# Altium footprint library outros_PCBLIB.PcbLib: 37 footprints (part 2 of 3)
Each footprint in its own frame and in the unit in brackets; x right, y up, seen from the top. Pads: shape width x height; smd on the part's side, far side on the other; paste and mask are expansions set on the pad; w line width, h text height; cw(c..) or ccw(c..) is an arc to the next point about the centre after c.
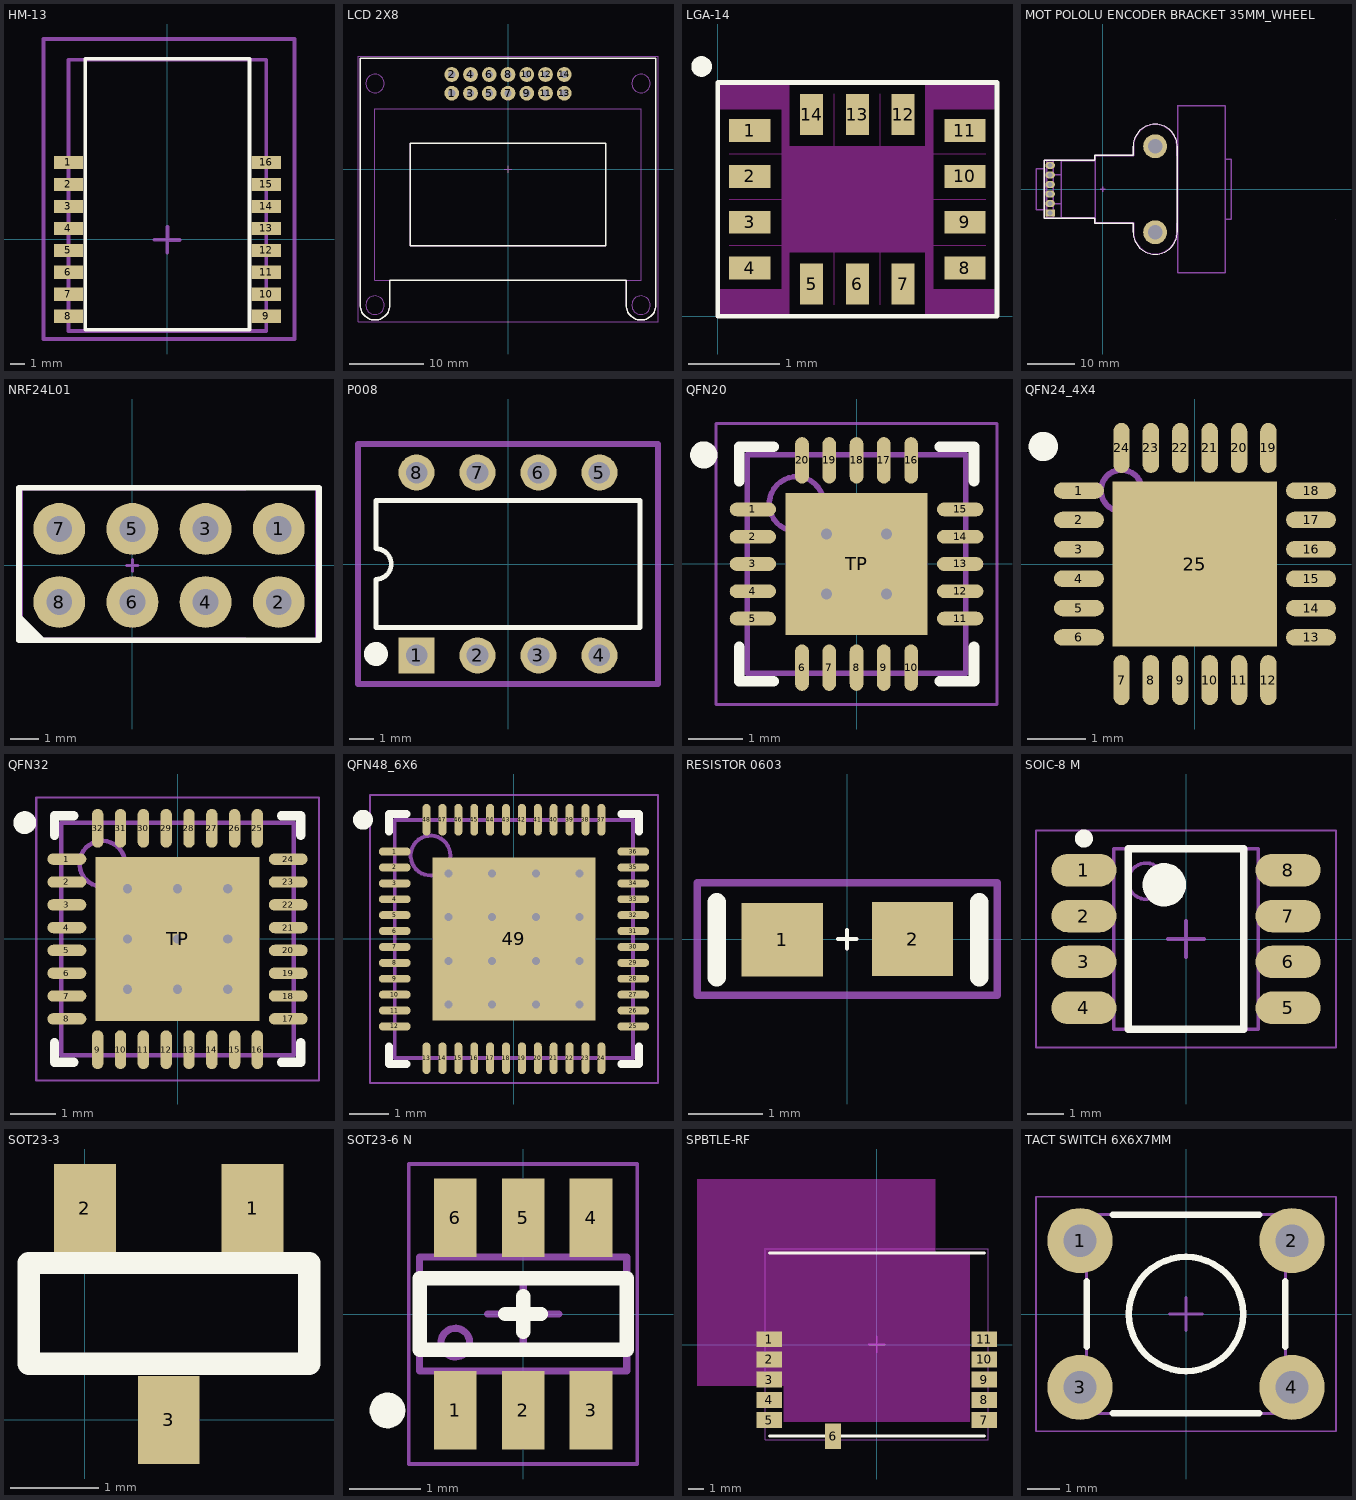
[diagram p1: the footprints below, top view; thin cyan lines are the x and y axes]

## HM-13 [mm]
pads (16):
  rect 2x0.9 smd: 1(-6.75,5.25) 2(-6.75,3.75) 3(-6.75,2.25) 4(-6.75,0.75) 5(-6.75,-0.75) 6(-6.75,-2.25) 7(-6.75,-3.75) 8(-6.75,-5.25) 9(6.75,-5.25) 10(6.75,-3.75) 11(6.75,-2.25) 12(6.75,-0.75) 13(6.75,0.75) 14(6.75,2.25) 15(6.75,3.75) 16(6.75,5.25)
Top Overlay:
  lines w0.254: -5.6,12.3 -5.6,-6.175 5.6,-6.175 5.6,12.3 ; -5.6,12.325 5.6,12.325
Mechanical 13:
  lines w0.254: -6.75,-6.25 6.75,-6.25 6.75,12.25 -6.75,12.25 -6.75,-6.25
Mechanical 15:
  lines w0.254: -0.875,-0.025 0.85,-0.025 0.85,-0.05 0.025,-0.05 0.025,0.85 0,0.85 0,-0.9 ; -8.45,-6.8 8.675,-6.8 8.675,13.675 -8.45,13.675 -8.45,-6.8
3D body "HM11.STEP": height 1.7, standoff -0.1, extent -6.75,-6.25 6.75,12.25

## LCD 2X8 [mm] "LCD 2X8"
height 21.74
pads (14):
  round 2 hole 1: 1(-7.62,10.287) 2(-7.62,12.827) 3(-5.08,10.287) 4(-5.08,12.827) 5(-2.54,10.287) 6(-2.54,12.827) 7(0,10.287) 8(0,12.827) 9(2.54,10.287) 10(2.54,12.827) 11(5.08,10.287) 12(5.08,12.827) 13(7.62,10.287) 14(7.62,12.827)
Top Overlay:
  lines w0.2: -20,-18.4 ccw(c-18,-18.4) -16,-18.4 -16,-15 16,-15 16,-18.4 ccw(c18,-18.4) 20,-18.4 20,-15 20,15 -20,15 -20,-15 -20,-18.4 ; -13.2,-10.35 13.2,-10.35 13.2,3.55 -13.2,3.55 -13.2,-10.35
Mechanical 13:
  circle w0.1: c18,-18.4 r1.25
  circle w0.1: c-18,-18.4 r1.25
  circle w0.1: c18,11.6 r1.25
  circle w0.1: c-18,11.6 r1.25
  lines w0.1: -20,-15 -20,-15 ; -20,-15 -20,15 20,15 20,-15 20,-18.4 cw(c18,-18.4) 16,-18.4 16,-15 -16,-15 -16,-18.4 cw(c-18,-18.4) -20,-18.4 -20,-15 ; -18,-15 -18,8.2 18,8.2 18,-15 -18,-15 ; -13.2,-10.35 -13.2,3.55 13.2,3.55 13.2,-10.35 -13.2,-10.35
Mechanical 15:
  lines w0.05: -20.3,-20.65 20.3,-20.65 20.3,15.3 -20.3,15.3 -20.3,-20.65
  lines w0.1: -0.5,0 0.5,0 ; 0,-0.5 0,0.5
Mechanical 29:
  text ".Designator" at 0,0 h1.2
3D body "LCD 8X2.STEP": height 21.74, standoff -2.09, extent -20,-20.4 20,15

## LGA-14 [mm]
pads (14):
  rect 0.45x0.25 smd: 1(0.35,2.025) 2(0.35,1.525) 3(0.35,1.025) 4(0.35,0.525) 8(2.7,0.525) 9(2.7,1.025) 10(2.7,1.525) 11(2.7,2.025)
  rect 0.25x0.45 smd: 5(1.025,0.35) 6(1.525,0.35) 7(2.025,0.35) 12(2.025,2.2) 13(1.525,2.2) 14(1.025,2.2)
Top Layer keep-out:
  rectangle: 0.695,0.295 0.785,0.695
  rectangle: 2.265,0.295 2.355,0.695
  rectangle: 2.265,1.855 2.355,2.255
  rectangle: 0.695,1.855 0.785,2.255
  rectangle: 0.025,0.025 0.785,0.295
  rectangle: 2.265,0.025 3.025,0.295
  rectangle: 2.265,2.255 3.025,2.525
  rectangle: 0.025,2.255 0.785,2.525
  rectangle: 0.695,0.695 2.355,1.855
  lines w0.01: 0.125,0.775 0.855,0.775 ; 0.125,1.275 0.855,1.275 ; 0.125,1.775 0.855,1.775 ; 1.275,0.125 1.275,0.855 ; 1.275,1.695 1.275,2.425 ; 1.775,0.125 1.775,0.855 ; 1.775,1.695 1.775,2.425 ; 2.195,0.775 2.925,0.775 ; 2.195,1.275 2.925,1.275 ; 2.195,1.775 2.925,1.775
Top Overlay:
  circle w0.125: c-0.175,2.725 r0.05
  lines w0.051: 0,0 0,2.55 3.05,2.55 3.05,0 0,0
3D body "Sensor 6 eixos st v0.step": height 0.99, standoff -0.02, extent 0.025,0.025 3.025,2.525

## MOT POLOLU ENCODER BRACKET 35MM_WHEEL [mm] "Chip Capacitor, 2-Leads, Body 1,60x0,80mm, IPC Medium Density"
height 0.8
pads (8):
  oval 2x1.5 hole 1: 1(-11,5) 2(-11,3) 3(-11,1) 4(-11,-1) 5(-11,-3)
  rect 2x1.5 hole 1: 6(-11,-5)
  round 5 hole 3: ""(11,-9) ""(11,9)
Top Overlay:
  lines w0.127: 6.4,-9 ccw(c11,-9) 15.6,-9 ; 6.4,9 cw(c11,9) 15.6,9
  lines w0.3: 6.4,-9 6.4,-7.1 -1.6,-7.1 -1.6,-6.1 -12.2,-6.1 -12.2,6.1 -1.6,6.1 -1.6,7.1 6.4,7.1 6.4,9 ; 15.6,-9 15.6,9
Mechanical 13:
  lines w0.1: 6.5,-9 ccw(c11,-9) 15.5,-9 ; 6.5,9 cw(c11,9) 15.5,9
  lines w0.3: -12.15,-0.5 -11.7,-0.5 ; -12.15,0.5 -11.7,0.5 ; -8.7,-3 -10.3,-3 ; -8.7,3 -10.25,3 -10.3,2.95 ; -1.5,-6 -8.7,-6 -8.7,6 -1.5,6 ; 6.5,-9 6.5,-7 ; 6.5,9 6.5,7 -1.5,7 -1.5,-7 6.5,-7 ; 15.5,-9 15.5,-7 15.7,-7 ; 15.5,9 15.5,7 ; 15.7,7 15.5,7 ; -10.3,-3 -10.3,-6 -11.7,-6 -11.7,6 -10.3,6 -10.3,2.95 ; -10.3,-3 -10.3,2.95 ; 6.5,-7 6.5,-7 ; 6.5,-7 6.5,-7 ; 15.5,7 15.5,7 ; 25.7,-6.3 25.7,-17.45 15.7,-17.45 15.7,17.45 25.7,17.45 25.7,6.3 ; 25.7,-6.3 25.7,6.3 ; 25.7,-6.3 26.9,-6.3 26.9,6.3 25.7,6.3 ; -13.95,-4.25 -12.15,-4.25 -12.15,4.25 -13.95,4.25 -13.95,-4.25
Mechanical 15:
  lines w0.1: 6.4,-9 ccw(c11,-9) 15.6,-9 ; 6.4,9 cw(c11,9) 15.6,9
  lines w0.3: -0.5,0 0.5,0 ; 0,-0.5 0,0.5 ; 6.4,-9 6.4,-7.1 -1.6,-7.1 -1.6,-6.1 -12.2,-6.1 -12.2,6.1 -1.6,6.1 -1.6,7.1 6.4,7.1 6.4,9 ; 15.6,9 15.6,-9 ; 15.6,-9 15.6,-9 ; 15.6,17.55 15.6,17.55 ; 48.85,-6.35 48.85,-6.35
Mechanical 29:
  text ".Designator" at -11.95,6.5 h0.5
3D body "Motor.STEP": height 22.49, standoff -12.43, extent -13.95,-17.462 26.882,17.462

## NRF24L01 [mm] "Connector; Header; 6 Position"
pads (8):
  round 1.8 hole 0.9: 1(5.08,1.27) 2(5.08,-1.27) 3(2.54,1.27) 4(2.54,-1.27) 5(0,1.27) 6(0,-1.27) 7(-2.54,1.27) 8(-2.54,-1.27)
Top Overlay:
  region: -3.937,-2.6 -3.048,-2.6 -3.048,-2.54 -3.937,-1.651
  lines w0.2: -3.937,-2.6 -3.937,2.7 6.477,2.7 6.477,-2.6 -3.937,-2.6
Mechanical 15:
  lines w0.1: -0.2,0 0.2,0 ; 0,-0.2 0,0.2
  lines w0.2: 3.9,-2.6 -3.9,-2.6 -3.9,2.7 3.9,2.7 ; 6.44,-2.6 6.44,-1.275 6.44,1.375 6.44,2.7
Mechanical 29:
  text "1" at -1.524,-2.286 h0.5
  text ".Designator" at -3.7,3.1 h0.5
3D body "User Library-NRF24L01.STEP": height 11.5, standoff -0.95, extent -8.255,-25.825 6.745,3.175
3D body: height 0.25, standoff 0, extent -4.572,2.667 -4.572,2.667

## P008 [mm] "DIP; 8 Leads; Row Spacing 7.62 mm; Pitch 2.54 mm"
height 5.08
pads (8):
  rect 1.5x1.5 hole 0.9: 1(-3.81,-3.81)
  round 1.5 hole 0.9: 2(-1.27,-3.81) 3(1.27,-3.81) 4(3.81,-3.81) 5(3.81,3.81) 6(1.27,3.81) 7(-1.27,3.81) 8(-3.81,3.81)
Top Overlay:
  circle w0.5: c-5.5,-3.75 r0.25
  lines w0.2: -5.5,-2.65 -5.5,-0.635 ccw(c-5.5,0) -5.5,0.635 -5.5,2.65 5.5,2.65 5.5,-2.65 -5.5,-2.65
Mechanical 15:
  lines w0.254: -6.25,-5 6.25,-5 6.25,5 -6.25,5 -6.25,-5
3D body "DIP8.STEP": height 3.85, standoff -2, extent -4.6,-3.935 4.6,3.935

## QFN20 [mm] "QFN, 20-Leads, Body 4,00x4,00mm, Pitch 0,50mm, Thermal Pad 2,60x2,60mm, IPC Medium Density"
height 0.95
pads (21):
  oval 0.85x0.25 smd: 1(-1.9,1) 2(-1.9,0.5) 3(-1.9,0) 4(-1.9,-0.5) 5(-1.9,-1) 11(1.9,-1) 12(1.9,-0.5) 13(1.9,0) 14(1.9,0.5) 15(1.9,1)
  oval 0.25x0.85 smd: 6(-1,-1.9) 7(-0.5,-1.9) 8(0,-1.9) 9(0.5,-1.9) 10(1,-1.9) 16(1,1.9) 17(0.5,1.9) 18(0,1.9) 19(-0.5,1.9) 20(-1,1.9)
  rect 2.6x2.6 smd: TP(0,0)
via -0.55,0.55 diameter 0.5 hole 0.2
via 0.55,0.55 diameter 0.5 hole 0.2
via -0.55,-0.55 diameter 0.5 hole 0.2
via 0.55,-0.55 diameter 0.5 hole 0.2
Top Overlay:
  circle w0.25: c-2.8,2 r0.125
  lines w0.2: -2.15,-1.525 -2.15,-2.15 -1.525,-2.15 ; -2.15,1.525 -2.15,2.15 -1.525,2.15 ; 1.525,-2.15 2.15,-2.15 2.15,-1.525 ; 1.525,2.15 2.15,2.15 2.15,1.525
Mechanical 13:
  circle w0.1: c-1.1,1.1 r0.5
  lines w0.1: -2,-2 -2,2 2,2 2,-2 -2,-2
Mechanical 15:
  lines w0.05: -2.575,-2.575 -2.575,2.575 2.575,2.575 2.575,-2.575 -2.575,-2.575
  lines w0.1: -0.5,0 0.5,0 ; 0,-0.5 0,0.5
3D body "QFN50P400X400X95_HS-21N.step": height 0.95, standoff 0, extent -2.02,-2.02 2.02,2.02

## QFN24_4X4 [mm]
pads (25):
  oval 0.85x0.28 smd: 1(-1.975,1.25) 2(-1.975,0.75) 3(-1.975,0.25) 4(-1.975,-0.25) 5(-1.975,-0.75) 6(-1.975,-1.25) 13(1.975,-1.25) 14(1.975,-0.75) 15(1.975,-0.25) 16(1.975,0.25) 17(1.975,0.75) 18(1.975,1.25)
  oval 0.28x0.85 smd: 7(-1.25,-1.975) 8(-0.75,-1.975) 9(-0.25,-1.975) 10(0.25,-1.975) 11(0.75,-1.975) 12(1.25,-1.975) 19(1.25,1.975) 20(0.75,1.975) 21(0.25,1.975) 22(-0.25,1.975) 23(-0.75,1.975) 24(-1.25,1.975)
  rect 2.8x2.8 smd: 25(0,0)
Top Overlay:
  circle w0.25: c-2.58,2 r0.125
Mechanical 13:
  circle w0.1: c-1.25,1.25 r0.35

## QFN32 [mm] "QFN, 32-Leads, Body 5,00x5,00mm, Pitch 0,50mm, Thermal Pad 3,60x3,60mm, IPC Medium Density"
height 0.9
pads (33):
  oval 0.85x0.25 smd: 1(-2.425,1.75) 2(-2.425,1.25) 3(-2.425,0.75) 4(-2.425,0.25) 5(-2.425,-0.25) 6(-2.425,-0.75) 7(-2.425,-1.25) 8(-2.425,-1.75) 17(2.425,-1.75) 18(2.425,-1.25) 19(2.425,-0.75) 20(2.425,-0.25) 21(2.425,0.25) 22(2.425,0.75) 23(2.425,1.25) 24(2.425,1.75)
  oval 0.25x0.85 smd: 9(-1.75,-2.425) 10(-1.25,-2.425) 11(-0.75,-2.425) 12(-0.25,-2.425) 13(0.25,-2.425) 14(0.75,-2.425) 15(1.25,-2.425) 16(1.75,-2.425) 25(1.75,2.425) 26(1.25,2.425) 27(0.75,2.425) 28(0.25,2.425) 29(-0.25,2.425) 30(-0.75,2.425) 31(-1.25,2.425) 32(-1.75,2.425)
  rect 3.6x3.6 smd: TP(0,0)
via 1.1,-1.1 diameter 0.5 hole 0.2
via 0,-1.1 diameter 0.5 hole 0.2
via -1.1,-1.1 diameter 0.5 hole 0.2
via 1.1,0 diameter 0.5 hole 0.2
via 0,0 diameter 0.5 hole 0.2
via -1.1,0 diameter 0.5 hole 0.2
via 1.1,1.1 diameter 0.5 hole 0.2
via 0,1.1 diameter 0.5 hole 0.2
via -1.1,1.1 diameter 0.5 hole 0.2
Top Overlay:
  circle w0.25: c-3.35,2.55 r0.125
  lines w0.2: -2.7,-2.275 -2.7,-2.7 -2.275,-2.7 ; -2.7,2.275 -2.7,2.7 -2.275,2.7 ; 2.275,-2.7 2.7,-2.7 2.7,-2.275 ; 2.275,2.7 2.7,2.7 2.7,2.275
Mechanical 13:
  circle w0.1: c-1.65,1.65 r0.5
  lines w0.1: -2.55,-2.55 2.55,-2.55 2.55,2.55 -2.55,2.55 -2.55,-2.55
Mechanical 15:
  lines w0.05: -3.1,-3.1 3.1,-3.1 3.1,3.1 -3.1,3.1 -3.1,-3.1
  lines w0.1: -0.5,0 0.5,0 ; 0,-0.5 0,0.5
3D body "QFN50P500X500X90_HS-33N.step": height 0.9, standoff 0, extent -2.57,-2.57 2.57,2.57

## QFN48_6X6 [mm] "QFN, 48-Leads, Body 6x6mm, Pitch 0.4mm, Thermal Pad 4.1x4.1mm, IPC Medium Density"
height 0.85
pads (49):
  oval 0.8x0.2 smd: 1(-3,2.2) 2(-3,1.8) 3(-3,1.4) 4(-3,1) 5(-3,0.6) 6(-3,0.2) 7(-3,-0.2) 8(-3,-0.6) 9(-3,-1) 10(-3,-1.4) 11(-3,-1.8) 12(-3,-2.2) 25(3,-2.2) 26(3,-1.8) 27(3,-1.4) 28(3,-1) 29(3,-0.6) 30(3,-0.2) 31(3,0.2) 32(3,0.6) 33(3,1) 34(3,1.4) 35(3,1.8) 36(3,2.2)
  oval 0.2x0.8 smd: 13(-2.2,-3) 14(-1.8,-3) 15(-1.4,-3) 16(-1,-3) 17(-0.6,-3) 18(-0.2,-3) 19(0.2,-3) 20(0.6,-3) 21(1,-3) 22(1.4,-3) 23(1.8,-3) 24(2.2,-3) 37(2.2,3) 38(1.8,3) 39(1.4,3) 40(1,3) 41(0.6,3) 42(0.2,3) 43(-0.2,3) 44(-0.6,3) 45(-1,3) 46(-1.4,3) 47(-1.8,3) 48(-2.2,3)
  rect 4.1x4.1 smd: 49(0,0)
via -1.65,1.65 diameter 0.5 hole 0.2
via -0.55,1.65 diameter 0.5 hole 0.2
via 0.55,1.65 diameter 0.5 hole 0.2
via 1.65,1.65 diameter 0.5 hole 0.2
via -1.65,0.55 diameter 0.5 hole 0.2
via -0.55,0.55 diameter 0.5 hole 0.2
via 0.55,0.55 diameter 0.5 hole 0.2
via 1.65,0.55 diameter 0.5 hole 0.2
via -1.65,-0.55 diameter 0.5 hole 0.2
via -0.55,-0.55 diameter 0.5 hole 0.2
via 0.55,-0.55 diameter 0.5 hole 0.2
via 1.65,-0.55 diameter 0.5 hole 0.2
via -1.65,-1.65 diameter 0.5 hole 0.2
via -0.55,-1.65 diameter 0.5 hole 0.2
via 0.55,-1.65 diameter 0.5 hole 0.2
via 1.65,-1.65 diameter 0.5 hole 0.2
Top Overlay:
  circle w0.25: c-3.8,3 r0.125
  lines w0.2: -3.15,-2.7 -3.15,-3.15 -2.7,-3.15 ; -3.15,2.7 -3.15,3.15 -2.7,3.15 ; 2.7,-3.15 3.15,-3.15 3.15,-2.7 ; 2.7,3.15 3.15,3.15 3.15,2.7
Mechanical 13:
  circle w0.1: c-2.1,2.1 r0.5
  lines w0.1: -3,-3 -3,3 3,3 3,-3 -3,-3
Mechanical 15:
  lines w0.05: -3.625,-3.625 -3.625,3.625 3.625,3.625 3.625,-3.625 -3.625,-3.625
  lines w0.1: -0.5,0 0.5,0 ; 0,-0.5 0,0.5
Mechanical 29:
  text ".Designator" at -1.143,-0.635 h1.4
3D body "QFN48_6x6.STEP": height 0.87, standoff 0, extent -3.02,-3.02 3.02,3.02

## RESISTOR 0603 [mm] "RES 5% 0603"
height 0.025
pads (2):
  rect 1.1x1 smd: 1(-0.877,-0.011) 2(0.889,0)
Top Overlay:
  lines w0.051: -0.127,0 0.127,0 ; 0,-0.127 0,0.127
  lines w0.254: -1.766,-0.519 -1.766,0.497 ; 1.79,-0.519 1.79,0.497
Mechanical 15:
  lines w0.102: -2.032,-0.762 2.032,-0.762 2.032,0.762 -2.032,0.762 -2.032,-0.762
3D body "SW3dPS-0603 SMD Resistor.STEP": height 0.3, standoff 0, extent -0.8,-0.4 0.8,0.4

## SOIC-8 M [mm] "SOIC, 8-Leads, Body 4,90x3,90mm, Pitch 1,27mm, IPC Low Density"
height 1.75
pads (8):
  oval 1.8x0.9 smd: 1(-2.825,1.905) 2(-2.825,0.635) 3(-2.825,-0.635) 4(-2.825,-1.905) 5(2.825,-1.905) 6(2.825,-0.635) 7(2.825,0.635) 8(2.825,1.905)
Top Overlay:
  circle w0.6: c-0.6,1.5 r0.3
  circle w0.25: c-2.825,2.78 r0.125
  lines w0.2: -1.6,-2.5 1.6,-2.5 1.6,2.5 -1.6,2.5 -1.6,-2.5
Mechanical 13:
  circle w0.1: c-1.1,1.6 r0.5
  lines w0.1: -2,-2.5 2,-2.5 2,2.5 -2,2.5 -2,-2.5
Mechanical 15:
  lines w0.05: -4.15,-3 4.15,-3 4.15,3 -4.15,3 -4.15,-3
  lines w0.1: -0.5,0 0.5,0 ; 0,-0.5 0,0.5
Mechanical 29:
  text ".Designator" at 0,0 h2
3D body "SOIC127P600X175-8M.step": height 1.75, standoff 0, extent -3,-2.5 3,2.5

## SOT23-3 [mm] "Hall Sensor"
pads (3):
  rect 0.7x1 smd: 1(1.9,2.4) 2(0,2.4) 3(0.95,0)
Top Overlay:
  lines w0.254: -0.635,0.635 2.54,0.635 2.54,1.778 -0.635,1.778 -0.635,0.635
3D body "TO-236AB.stp": height 1.1, standoff 0, extent -0.55,0 2.45,2.5

## SOT23-6 N [mm] "SOT23-6 N"
height 0.85
pads (6):
  rect 0.6x1.1 smd: 1(-0.95,-1.35) 2(0,-1.35) 3(0.95,-1.35) 4(0.95,1.35) 5(0,1.35) 6(-0.95,1.35)
Top Overlay:
  circle w0.25: c-1.9,-1.35 r0.125
  lines w0.2: -0.25,0 0.25,0 ; 0,-0.25 0,0.25 ; -1.45,-0.5 -1.45,0.5 1.45,0.5 1.45,-0.5 -1.45,-0.5
Mechanical 13:
  circle w0.1: c-0.95,-0.4 r0.2
  lines w0.1: -1.45,-0.8 -1.45,0.8 1.45,0.8 1.45,-0.8 -1.45,-0.8
Mechanical 15:
  lines w0.05: -1.6,-2.1 1.6,-2.1 1.6,2.1 -1.6,2.1 -1.6,-2.1
  lines w0.1: -0.5,0 0.5,0 ; 0,-0.5 0,0.5
Mechanical 29:
  text ".Designator" at 0,0 h1
3D body "SOT23-6.STEP": height 1.45, standoff 0, extent -1.45,-1.4 1.45,1.4

## SPBTLE-RF [mm] "SPBTLE-RF BLUETOOTH MODULE"
height 2
pads (11):
  rect 1.6x1 smd: 1(-6.75,0.341) 2(-6.75,-0.929) 3(-6.75,-2.199) 4(-6.75,-3.469) 5(-6.75,-4.741) 7(6.75,-4.739) 8(6.75,-3.469) 9(6.75,-2.199) 10(6.75,-0.929) 11(6.75,0.341)
  rect 1x1.6 smd: 6(-2.75,-5.75)
Top Overlay:
  lines w0.2: -6.75,-5.739 6.75,-5.739 ; -6.75,5.761 6.75,5.761
Bottom Overlay:
  circle w0.1: c-7.15,5.761 r0.05
Keep-Out Layer:
  rectangle: -5.85,-4.85 5.85,5.775
  rectangle: -11.3,-2.6 3.7,10.4
Mechanical 15:
  lines w0.05: -7,-5.989 7,-5.989 7,6.011 -7,6.011 -7,-5.989
  lines w0.1: -0.5,0.011 0.5,0.011 ; 0,-0.489 0,0.511
3D body "User Library-SPBTLE.STEP": height 1.62, standoff -0.38, extent -6.75,-5.739 6.75,5.761

## TACT SWITCH 6X6X7MM [mm] "Tactile Switch 6x6x7mm"
height 7
pads (4):
  round 2 hole 1: 1(-3.25,2.25) 2(3.25,2.25) 3(-3.25,-2.25) 4(3.25,-2.25)
Top Overlay:
  circle w0.2: c0,0 r1.75
  lines w0.2: -3.05,-1 -3.05,1 ; -2.25,-3.05 2.25,-3.05 ; -2.25,3.05 2.25,3.05 ; 3.05,-1 3.05,1
Mechanical 13:
  circle w0.1: c0,0 r1.75
  lines w0.1: -3.05,-3.05 3.05,-3.05 3.05,3.05 -3.05,3.05 -3.05,-3.05
Mechanical 15:
  lines w0.05: -4.6,-3.6 -4.6,3.6 4.6,3.6 4.6,-3.6 -4.6,-3.6
  lines w0.1: -0.5,0 0.5,0 ; 0,-0.5 0,0.5
Mechanical 29:
  text ".Designator" at 0,0 h2
3D body "TACT SWITCH 7MM.STEP": height 7, standoff -3.5, extent -3.95,-3.1 3.95,3.1